# EAGLE library part PMOS-1G-1S-4D_2 (library daqcs)
MOSFET P-CH
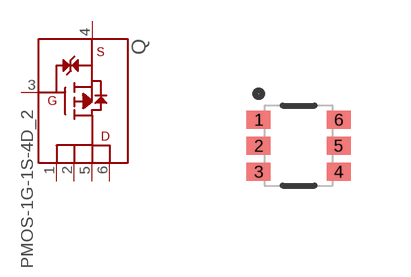
[diagram p19: symbol with the pads of WSMINI6-F1-B; footprint WSMINI6-F1-B]

Designator prefix Q

## PMOS-1G-1S-4D_2_PCH_6N (CONTINUOUS_DRAIN_CURRENT: 4.0A; DATASHEET: HW/docs/projects/raspi_zero_power_sensor_hat/datasheets/wdt_reset/MTM76111_E.pdf; FET_TYPE: PMOS; MANUFACTURER: Panasonic; MANUFACTURER_PN: MTM761110LBF; POWER_MAX: 700mW; RDS_ON_MAX: 34 mOhm @ 1A, 4.5V; VALUE: PMOS-4A; VDS: 12.0V; VENDOR: Digi-key; VENDOR_PN: MTM761110LBFCT-ND; VGS_MAX: 1V @ 1mA)  [WSMINI6-F1-B]
1  D
2  D
3  G
4  S
5  D
6  D

## Footprint WSMINI6-F1-B (pad centres in mm)
smd 0.6 x 0.45: 1 -1,0.65; 2 -1,0; 3 -1,-0.65; 4 1,-0.65; 5 1,0; 6 1,0.65